# EAGLE library part TT8K1 (library FET)
MOSFET 2N-CH 20V 2.5A TSST8 Mosfet Array 2 N-Channel (Dual) 20V 2.5A 1W Surface Mount 8-TSST Datasheet <https://goo.gl/SXsF7W>
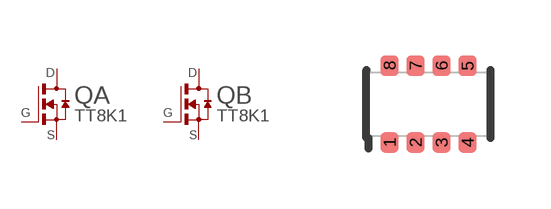
[diagram p1: symbol with the pads of TRXSOFL8P65_300X190X85L15X32N; footprint TRXSOFL8P65_300X190X85L15X32N]

Designator prefix Q; gates A=EMOS-ND B=EMOS-ND

## TT8K1T (DATASHEET: https://goo.gl/K6RqfR; DESC: MOSFET 2N-CH 30V 3A TSST8; ID: 3A; MANF: Rohm Semiconductor; MFPN: TT8K1; PARTNO: NEW; STATUS: Active; TYPE: 2 N-Channel (Dual); VDSS: 30V), TT8K11T (DATASHEET: https://goo.gl/K6RqfR; DESC: MOSFET 2N-CH 30V 3A TSST8; ID: 3A; MANF: Rohm Semiconductor; MFPN: TT8K11; PARTNO: NEW; STATUS: Active; TYPE: 2 N-Channel (Dual); VDSS: 30V)  [TRXSOFL8P65_300X190X85L15X32N]
1  A:S  pas
2  A:G  pas
3  B:S  pas
4  B:G  pas
5  B:D  pas
6  B:D  pas
7  A:D  pas
8  A:D  pas

## Footprint TRXSOFL8P65_300X190X85L15X32N (pad centres in mm)
Transistor, Small Outline Flat Lead (SOFL), 0.65 mm pitch; 8 pin, 3.00 mm L X 1.60 mm W X 0.85 mm H body PCB Libraries Packages
smd 0.45 x 0.51: 1 -0.975,-0.96; 2 -0.325,-0.96; 3 0.325,-0.96; 4 0.975,-0.96; 5 0.975,0.96; 6 0.325,0.96; 7 -0.325,0.96; 8 -0.975,0.96